# EAGLE library part NN5118160AJ (library memory)
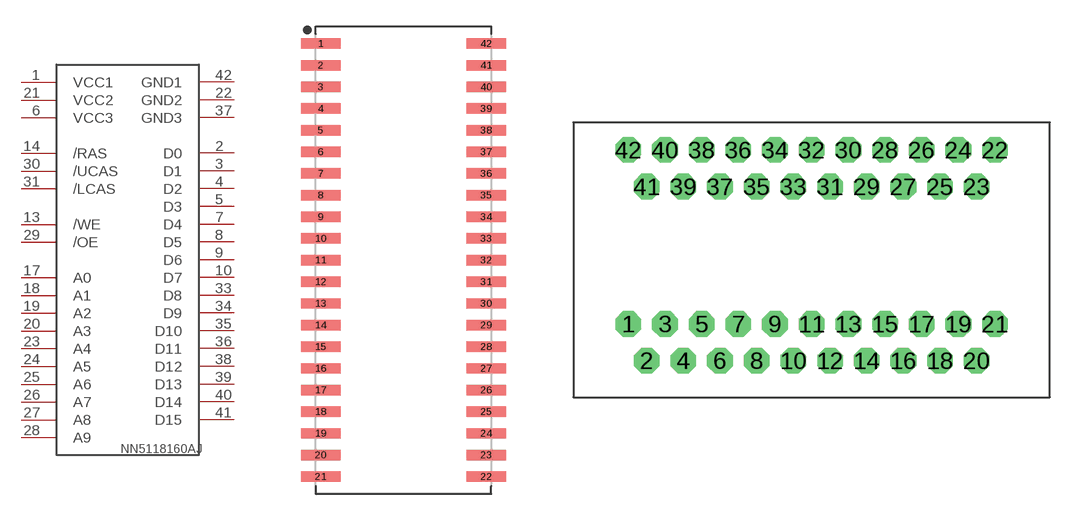
[diagram p0: symbol with the pads of SOJ127P1117X376-42; footprints SOJ127P1117X376-42, SOJ42SOCKET]

Designator prefix -

## NN5118160AJ  [SOJ127P1117X376-42]
1  VCC1
2  D0
3  D1
4  D2
5  D3
6  VCC3
7  D4
8  D5
9  D6
10  D7
13  /WE
14  /RAS
17  A0
18  A1
19  A2
20  A3
21  VCC2
22  GND2
23  A4
24  A5
25  A6
26  A7
27  A8
28  A9
29  /OE
30  /UCAS
31  /LCAS
33  D8
34  D9
35  D10
36  D11
37  GND3
38  D12
39  D13
40  D14
41  D15
42  GND1

## NN5118160AJSOCKET  [SOJ42SOCKET]
Pads as for SOJ127P1117X376-42

## Footprint SOJ127P1117X376-42 (pad centres in mm)
42-SOJ, 1.27 mm pitch, 11.18 mm span, 27.30 X 10.16 X 3.76 mm body 42-pin SOJ package with 1.27 mm pitch, 11.18 mm span with body size 27.30 X 10.16 X 3.76 mm
smd 2.315 x 0.612: 1 -4.854,12.7; 2 -4.854,11.43; 3 -4.854,10.16; 4 -4.854,8.89; 5 -4.854,7.62; 6 -4.854,6.35; 7 -4.854,5.08; 8 -4.854,3.81; 9 -4.854,2.54; 10 -4.854,1.27; 11 -4.854,0; 12 -4.854,-1.27; 13 -4.854,-2.54; 14 -4.854,-3.81; 15 -4.854,-5.08; 16 -4.854,-6.35; 17 -4.854,-7.62; 18 -4.854,-8.89; 19 -4.854,-10.16; 20 -4.854,-11.43; 21 -4.854,-12.7; 22 4.854,-12.7; 23 4.854,-11.43; 24 4.854,-10.16; 25 4.854,-8.89; 26 4.854,-7.62; 27 4.854,-6.35; 28 4.854,-5.08; 29 4.854,-3.81; 30 4.854,-2.54; 31 4.854,-1.27; 32 4.854,0; 33 4.854,1.27; 34 4.854,2.54; 35 4.854,3.81; 36 4.854,5.08; 37 4.854,6.35; 38 4.854,7.62; 39 4.854,8.89; 40 4.854,10.16; 41 4.854,11.43; 42 4.854,12.7

## Footprint SOJ42SOCKET (pad centres in mm)
drill 1.016 pad 1.778 octagon: 1 -12.7,-5.08; 2 -11.43,-7.62; 3 -10.16,-5.08; 4 -8.89,-7.62; 5 -7.62,-5.08; 6 -6.35,-7.62; 7 -5.08,-5.08; 8 -3.81,-7.62; 9 -2.54,-5.08; 10 -1.27,-7.62; 11 0,-5.08; 12 1.27,-7.62; 13 2.54,-5.08; 14 3.81,-7.62; 15 5.08,-5.08; 16 6.35,-7.62; 17 7.62,-5.08; 18 8.89,-7.62; 19 10.16,-5.08; 20 11.43,-7.62; 21 12.7,-5.08; 22 12.7,6.985; 23 11.43,4.445; 24 10.16,6.985; 25 8.89,4.445; 26 7.62,6.985; 27 6.35,4.445; 28 5.08,6.985; 29 3.81,4.445; 30 2.54,6.985; 31 1.27,4.445; 32 0,6.985; 33 -1.27,4.445; 34 -2.54,6.985; 35 -3.81,4.445; 36 -5.08,6.985; 37 -6.35,4.445; 38 -7.62,6.985; 39 -8.89,4.445; 40 -10.16,6.985; 41 -11.43,4.445; 42 -12.7,6.985